# Altium footprint library HTSSOP-16_L5.0-W4.4-P0.65-LS6.4-BL-EP_2022-06-29.PcbLib: 1 footprints
Each footprint in its own frame and in the unit in brackets; x right, y up, seen from the top. Pads: shape width x height; smd on the part's side, far side on the other; paste and mask are expansions set on the pad; w line width, h text height; cw(c..) or ccw(c..) is an arc to the next point about the centre after c.
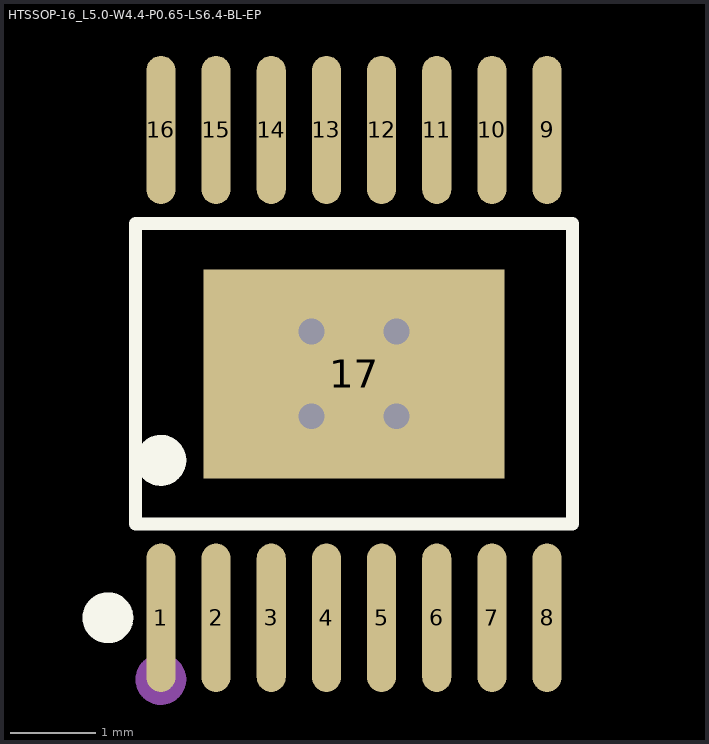
[diagram p0: the footprint, top view; thin cyan lines are the x and y axes]

## HTSSOP-16_L5.0-W4.4-P0.65-LS6.4-BL-EP [mm]
pads (17):
  oval 0.343x1.747 smd: 1(454.686,-346.903) 2(455.336,-346.903) 3(455.986,-346.903) 4(456.636,-346.903) 5(457.286,-346.903) 6(457.936,-346.903) 7(458.586,-346.903) 8(459.236,-346.903) 9(459.236,-341.157) 10(458.586,-341.157) 11(457.936,-341.157) 12(457.286,-341.157) 13(456.636,-341.157) 14(455.986,-341.157) 15(455.336,-341.157) 16(454.686,-341.157)
  rect 3.55x2.46 smd: 17(456.961,-344.03)
via 457.461,-344.53 diameter 0.61 hole 0.305
via 456.461,-344.53 diameter 0.61 hole 0.305
via 457.461,-343.53 diameter 0.61 hole 0.305
via 456.461,-343.53 diameter 0.61 hole 0.305
Top Overlay:
  circle w0.3: c454.062,-346.903 r0.15
  circle w0.3: c454.686,-345.049 r0.15
  lines w0.152: 454.385,-345.801 459.537,-345.801 459.537,-342.259 454.385,-342.259 454.385,-345.801
Mechanical 15:
  circle w0.3: c454.686,-347.63 r0.15